# EAGLE library part FT230XS (library ftdi-chip)
USB to BASIC UART
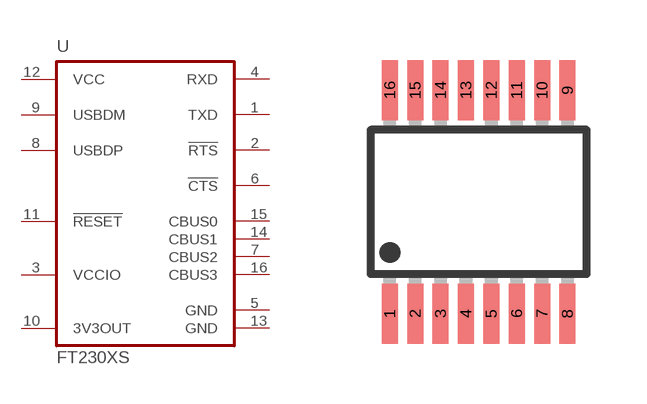
[diagram p8: symbol with the pads of SSOP16; footprint SSOP16]

Designator prefix U

## FT230XS  [SSOP16]
1  TXD  out
2  !RTS!  out
3  VCCIO  in
4  RXD  in
5  GND  pwr
6  !CTS!  in
7  CBUS2
8  USBDP
9  USBDM
10  3V3OUT  out
11  !RESET!  in
12  VCC  pwr
13  GND  pwr
14  CBUS1
15  CBUS0
16  CBUS3

## Footprint SSOP16 (pad centres in mm)
Shrink Small Outline Package body 4.90 x 3.91 mm
smd 0.4 x 1.5: 1 -2.223,-2.794; 2 -1.587,-2.794; 3 -0.953,-2.794; 4 -0.318,-2.794; 5 0.318,-2.794; 6 0.953,-2.794; 7 1.587,-2.794; 8 2.223,-2.794; 9 2.223,2.794; 10 1.587,2.794; 11 0.953,2.794; 12 0.318,2.794; 13 -0.318,2.794; 14 -0.953,2.794; 15 -1.587,2.794; 16 -2.223,2.794